# Altium footprint library Mechanical.PcbLib: 50 footprints (part 4 of 4)
Each footprint in its own frame and in the unit in brackets; x right, y up, seen from the top. Pads: shape width x height; smd on the part's side, far side on the other; paste and mask are expansions set on the pad; w line width, h text height; cw(c..) or ccw(c..) is an arc to the next point about the centre after c.
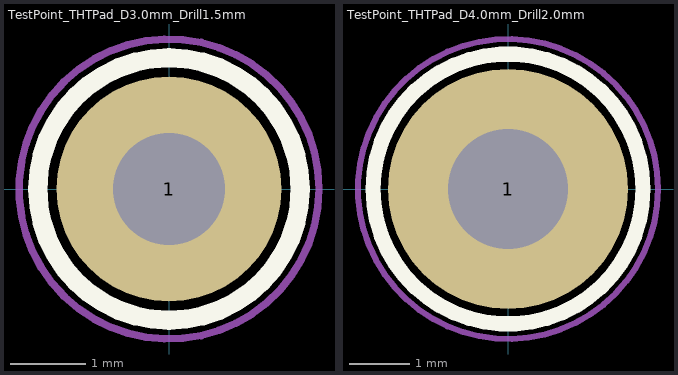
[diagram p3: the footprints below, top view; thin cyan lines are the x and y axes]

## TestPoint_THTPad_D3.0mm_Drill1.5mm [mm] "THT pad as test Point, diameter 3.0mm, hole diameter 1.5mm"
pads (1):
  round 3 hole 1.5: 1(0,0)
Top Overlay:
  circle w0.254: c0,0 r1.75
Top Courtyard:
  circle w0.1: c0,0 r2
Top Designator:
  text ".Designator" at -7.63,-0.521 h1.52

## TestPoint_THTPad_D4.0mm_Drill2.0mm [mm] "THT pad as test Point, diameter 4.0mm, hole diameter 2.0mm"
pads (1):
  round 4 hole 2: 1(0,0)
Top Overlay:
  circle w0.254: c0,0 r2.25
Top Courtyard:
  circle w0.1: c0,0 r2.5
Top Designator:
  text ".Designator" at -7.63,-0.521 h1.52